# Altium footprint library XZMDKVG55W-7.PcbLib: 1 footprints
Each footprint in its own frame and in the unit in brackets; x right, y up, seen from the top. Pads: shape width x height; smd on the part's side, far side on the other; paste and mask are expansions set on the pad; w line width, h text height; cw(c..) or ccw(c..) is an arc to the next point about the centre after c.
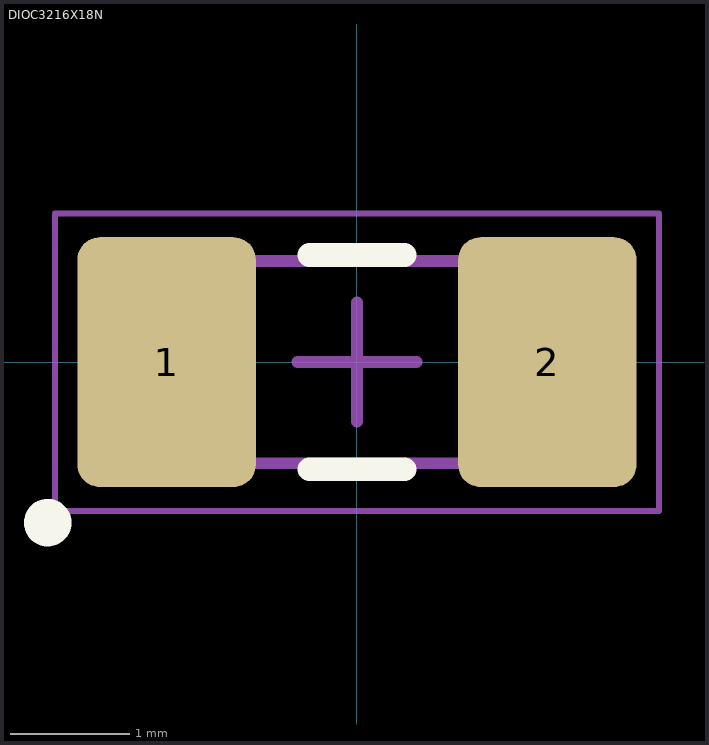
[diagram p0: the footprint, top view; thin cyan lines are the x and y axes]

## DIOC3216X18N [mm] "Chip Diode, 2-Leads, Body 3.20x1.60mm, IPC Medium Density"
height 1.8
pads (2):
  rrect25% 1.5x2.1 smd: 1(-1.6,0) 2(1.6,0)
Top Overlay:
  circle w0.2: c-2.6,-1.35 r0.1
  lines w0.2: -0.4,-0.9 0.4,-0.9 ; -0.4,0.9 0.4,0.9
Mechanical 13:
  lines w0.1: -1.65,-0.85 1.65,-0.85 1.65,0.85 -1.65,0.85 -1.65,-0.85
Mechanical 15:
  lines w0.05: -2.54,-1.25 2.54,-1.25 2.54,1.25 -2.54,1.25 -2.54,-1.25
  lines w0.1: -0.5,0 0.5,0 ; 0,-0.5 0,0.5
3D body "XZxxxx55W-7.step": height 1.8, standoff -0.01, extent -1.6,-0.8 1.6,0.8